# EAGLE library part CA3096 (library !synthdiy)
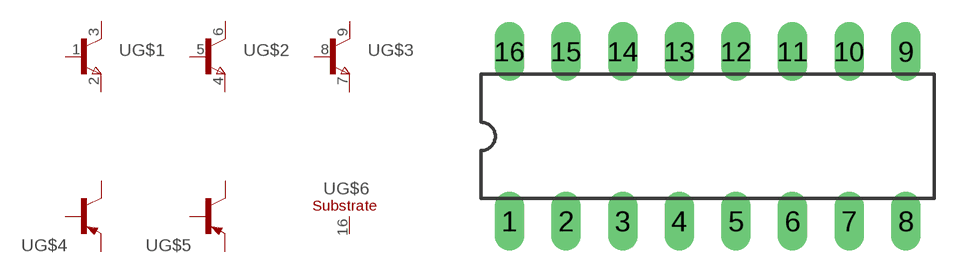
[diagram p14: symbol with the pads of DIL16; footprint DIL16]

Designator prefix -; gates G$1=NPN-NV G$2=NPN-NV G$3=NPN-NV G$4=PNP-NV G$5=PNP-NV G$6=SUB

## CA3096  [DIL16]
1  G$1:B  pas
2  G$1:E  pas
3  G$1:C  pas
4  G$2:E  pas
5  G$2:B  pas
6  G$2:C  pas
7  G$3:E  pas
8  G$3:B  pas
9  G$3:C  pas
10  G$4:E  pas
11  G$4:B  pas
12  G$4:C  pas
13  G$5:E  pas
14  G$5:B  pas
15  G$5:C  pas
16  G$6:E  pas

## Footprint DIL16 (pad centres in mm)
Dual In Line 16
drill 0.813 long: 1 -8.89,-3.81; 2 -6.35,-3.81; 3 -3.81,-3.81; 4 -1.27,-3.81; 5 1.27,-3.81; 6 3.81,-3.81; 7 6.35,-3.81; 8 8.89,-3.81; 9 8.89,3.81; 10 6.35,3.81; 11 3.81,3.81; 12 1.27,3.81; 13 -1.27,3.81; 14 -3.81,3.81; 15 -6.35,3.81; 16 -8.89,3.81